# Altium footprint library Transformer.PcbLib: 11 footprints
Each footprint in its own frame and in the unit in brackets; x right, y up, seen from the top. Pads: shape width x height; smd on the part's side, far side on the other; paste and mask are expansions set on the pad; w line width, h text height; cw(c..) or ccw(c..) is an arc to the next point about the centre after c.
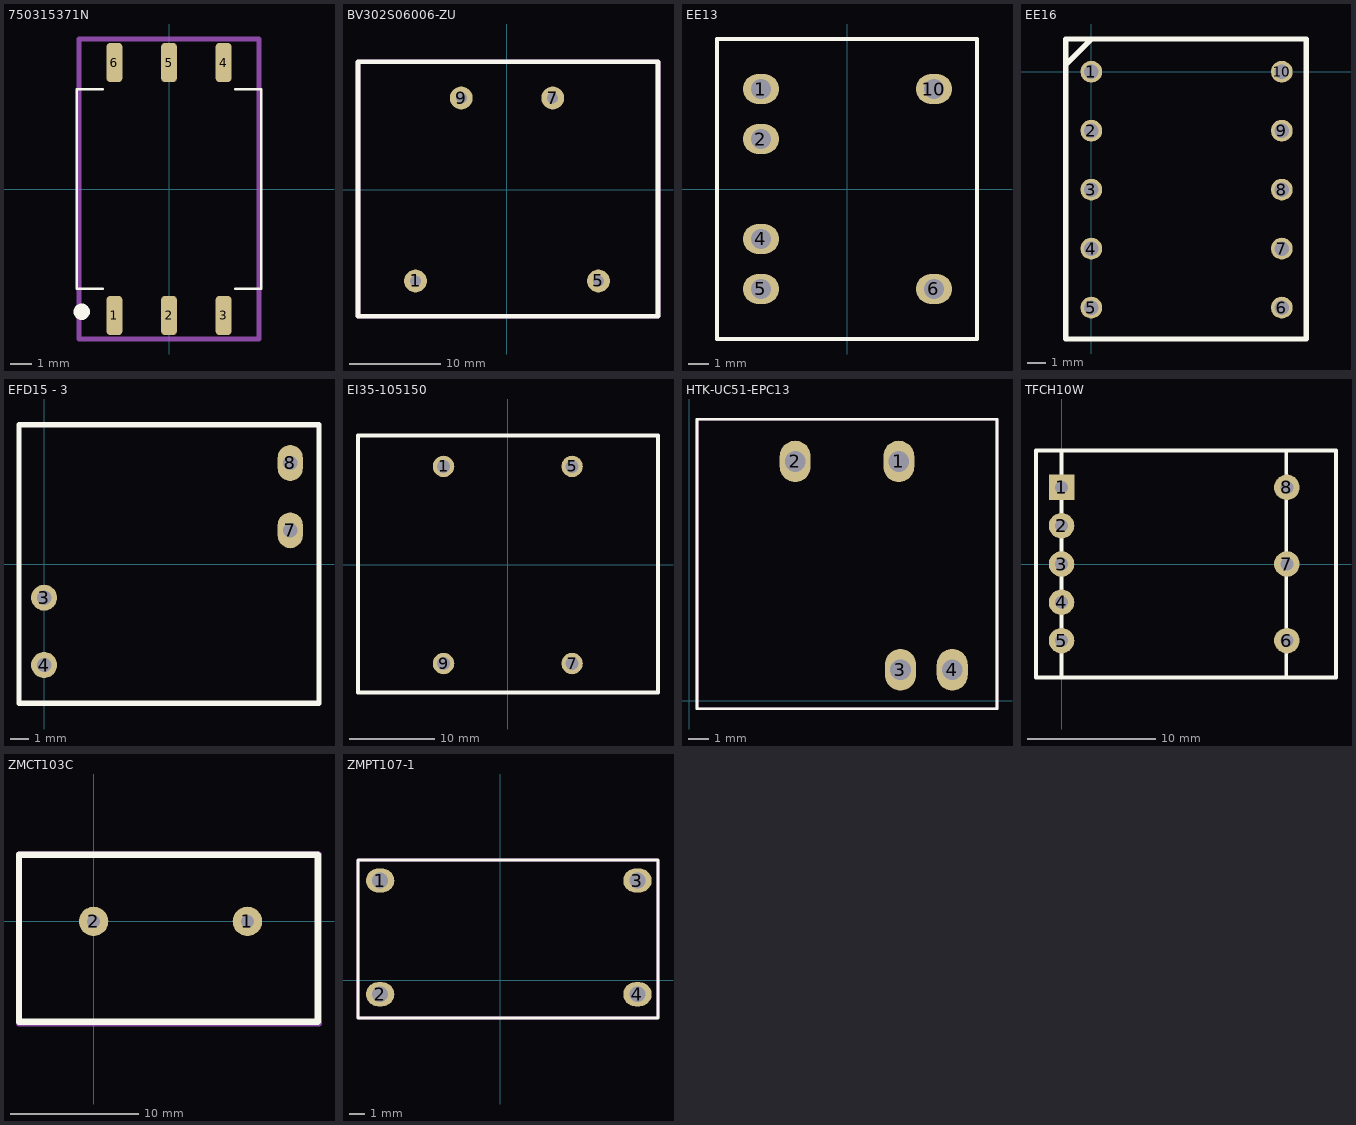
[diagram p0: the footprints below, top view; thin cyan lines are the x and y axes]

## 750315371 [mm]

## 750315371N [mm] "Small Outline IC (SOIC), 2.54 mm pitch; 6 pin, 8.30 mm L X 9.25 mm W X 4.10 mm H body"
height 4.1
pads (6):
  rrect49% 0.73x1.83 smd: 1(-2.54,-5.89) 2(0,-5.89) 3(2.54,-5.89) 4(2.54,5.89) 5(0,5.89) 6(-2.54,5.89)
Top Overlay:
  circle w0.5: c-4.064,-5.715 r0.127
  lines w0.12: -3.085,-4.65 -4.3,-4.65 -4.3,4.65 -3.085,4.65 ; 3.085,-4.65 4.3,-4.65 4.3,4.65 3.085,4.65
Mechanical 13:
  lines w0.254: -4.191,-6.985 -4.191,6.985 4.191,6.985 4.191,-6.985 -4.191,-6.985
  text ".Designator" at 0.508,-5.588 h2
Mechanical 15:
  lines w0.254: -4.191,-6.985 -4.191,6.985 4.191,6.985 4.191,-6.985 -4.191,-6.985
  text ".Comment" at 0.127,-5.969 h2
3D body "750315371.STEP": height 4.1, standoff 0, extent -4.15,-6.3 4.15,6.3

## BV302S06006-ZU [mm]
pads (4):
  round 2.5 hole 1.2: 1(-10,-10) 5(10,-10) 7(5,10) 9(-5,10)
Top Overlay:
  lines w0.5: -16.29,-13.843 -16.29,13.957 16.51,13.957 16.51,-13.843 -16.29,-13.843
Mechanical 13:
  lines w0.5: -16.29,-13.843 16.51,-13.843 16.51,13.957 -16.29,13.957 -16.29,-13.843
  text ".Designator" at -6.223,-0.508 h3
Mechanical 15:
  lines w0.5: -16.29,-13.843 -16.29,13.957 16.51,13.957 16.51,-13.843 -16.29,-13.843
  text ".Comment" at -6.223,-0.508 h3
3D body: height 15.4, standoff 0, extent -16.256,-13.843 16.51,13.97

## EE13 [mm]
height 0.5
pads (6):
  oval 1.8x1.524 hole 1: 1(-4.325,5) 2(-4.325,2.5) 4(-4.325,-2.5) 5(-4.325,-5) 6(4.325,-5) 10(4.325,5)
Top Overlay:
  lines w0.2: -6.525,-7.5 6.475,-7.5 6.475,7.5 -6.525,7.5 -6.525,-7.5
Mechanical 13:
  lines w0.2: -6.525,-7.5 6.475,-7.5 6.475,7.5 -6.525,7.5 -6.525,-7.5
  text ".Designator" at -3.8,-0.5 h1.5
3D body "EE13.STEP": height 13.86, standoff -2.92, extent -6.909,-6.88 6.909,6.75

## EE16 [mm]
pads (10):
  round 1.2 hole 0.8: 1(0,0) 2(0,-3.25) 3(0,-6.5) 4(0,-9.75) 5(0,-13) 6(10.5,-13) 7(10.5,-9.75) 8(10.5,-6.5) 9(10.5,-3.25) 10(10.5,0)
Top Overlay:
  lines w0.3: -1.397,0.356 -1.397,0.406 0,1.803 ; -1.397,-14.732 11.735,-14.732 11.836,-14.732 11.836,1.499 11.836,1.803 -1.397,1.803 -1.397,-3.25 -1.397,-14.732
3D body "User Library-EE16(5+5).step": height 14.55, standoff -4, extent -1.268,-14.577 11.657,1.623

## EFD15 - 3 [mm]
pads (4):
  round 1.45 hole 0.8: 3(0,-1.875) 4(0,-5.625)
  oval 1.4x2 hole 0.8: 7(13.7,1.875) 8(13.7,5.625)
Top Overlay:
  lines w0.3: -1.4,-7.75 -1.4,7.75 15.3,7.75 15.3,-7.75 -1.4,-7.75
3D body "User Library-EDF15.step": height 8.31, standoff -3.49, extent -1.414,-7.7 15.014,7.6

## EI35-105150 [mm]
pads (4):
  round 2.5 hole 1.5: 1(-7.5,11.5) 5(7.5,11.5) 7(7.5,-11.5) 9(-7.5,-11.5)
Top Overlay:
  lines w0.5: -17.481,-14.887 17.519,-14.887 17.519,15.113 -17.481,15.113 -17.481,-14.887
3D body: height 28, standoff 0, extent -17.399,-14.859 17.526,15.113

## HTK-UC51-EPC13 [mm]
pads (4):
  oval 1.5x2 hole 1: 1(10.12,11.554) 2(5.12,11.554) 3(10.2,1.5) 4(12.7,1.5)
Top Overlay:
  lines w0.127: 0.381,-0.381 14.859,-0.381 14.859,13.589 0.381,13.589 0.381,-0.381
Mechanical 13:
  lines w0.127: 0.381,-0.381 0.381,13.589 14.859,13.589 14.859,-0.381 0.381,-0.381
  text ".Designator" at 10.2,1.5 h0.64
Mechanical 15:
  lines w0.127: 0.381,-0.381 0.381,13.589 14.859,13.589 14.859,-0.381 0.381,-0.381
  text ".Comment" at 10.2,1.5 h0.64
3D body: height 10.8, standoff 0.05, extent 0.58,0.354 14.58,2.854
3D body: height 10.8, standoff 0, extent 0.58,10.854 14.58,12.854
3D body: height 8, standoff 5, extent 0.78,1.354 14.38,12.354
3D body: height 7.9, standoff 5.5, extent 0.42,-0.346 14.82,13.554
3D body: height 10, standoff 3, extent 0.83,2.854 14.33,10.854
3D body: height 2, standoff -3, extent 12.021,0.954 13.219,2.149
3D body: height 2, standoff -3, extent 4.521,10.954 5.719,12.149
3D body: height 2, standoff -3, extent 9.521,10.954 10.719,12.149
3D body: height 2, standoff -3, extent 9.516,0.935 10.714,2.131

## TFCH10W [mm]
pads (8):
  rect 2x2 hole 1: 1(0,6)
  round 2 hole 1: 2(0,3) 3(0,0) 4(0,-3) 5(0,-6) 6(17.653,-6) 7(17.653,0) 8(17.653,6)
Top Overlay:
  lines w0.3: -2,8.9 21.5,8.9 21.5,-8.9 -2,-8.9 -2,8.89 -1.905,8.89 -1.905,8.9 ; 0,-8.9 0,8.9 ; 17.6,-8.9 17.6,8.9
3D body: height 14, standoff 0, extent 3.81,-8.763 14.605,9.017
3D body: height 14, standoff 0, extent -2.032,-8.89 3.683,8.89
3D body: height 14, standoff 0, extent 14.605,-8.89 21.463,8.89

## ZMCT103C [mm]
pads (2):
  round 2.3 hole 1: 1(12,0) 2(0,0)
Top Overlay:
  lines w0.5: -5.815,-7.825 17.475,-7.825 17.475,5.182 -5.815,5.182 -5.815,-7.825
Mechanical 13:
  lines w0.5: -5.815,-7.925 17.575,-7.925 17.575,5.182 -5.815,5.182 -5.815,-7.925
  text ".Designator" at -1.273,2.417 h3
Mechanical 15:
  lines w0.5: -5.815,-7.925 17.55,-7.925 17.55,5.175 -5.815,5.175 -5.815,-7.925
  text ".Comment" at -1.273,2.417 h3
3D body "User Library-ZMCT118F.STEP": height 24.5, standoff -5, extent -5.525,-7.575 17.475,4.925

## ZMPT107-1 [mm]
pads (4):
  oval 1.8x1.524 hole 1: 1(-7.6,6.3) 2(-7.6,-0.9) 3(8.7,6.3) 4(8.7,-0.9)
Top Overlay:
  lines w0.2: -9,-2.4 -9,7.6 10,7.6 10,-2.4 -9,-2.4
Mechanical 13:
  lines w0.2: -9,-2.4 10,-2.4 10,7.6 -9,7.6 -9,-2.4
  text ".Designator" at -3.8,-0.5 h1.5
3D body: height 18.2, standoff 0, extent -9,-2.4 10,7.6